# EAGLE library part MOSFET_NCH_DUAL (library useful)
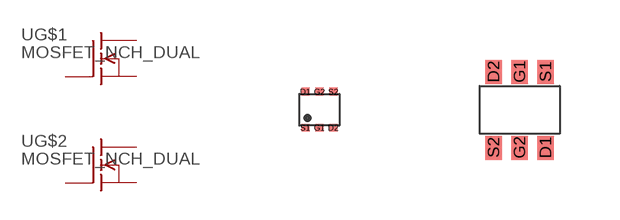
[diagram p6: symbol with the pads of SOT-963; footprints SOT-963, SOT-363]

Designator prefix -; gates G$1=IGFET-EN-GDS G$2=IGFET-EN-GDS

## MOSFET_NCH_DUALKLEIN  [SOT-963]
D1  G$1:D  pas
D2  G$2:D  pas
G1  G$1:G  pas
G2  G$2:G  pas
S1  G$1:S  pas
S2  G$2:S  pas

## MOSFET_NCH_DUAL  [SOT-363]
Pads as for SOT-963

## Footprint SOT-963 (pad centres in mm)
smd 0.2 x 0.2: D1 -0.35,0.45; D2 0.35,-0.45; G1 0,-0.45; G2 0,0.45; S1 -0.35,-0.45; S2 0.35,0.45

## Footprint SOT-363 (pad centres in mm)
smd 0.42 x 0.6: D1 0.65,-0.95; D2 -0.65,0.95; G1 0,0.95; G2 0,-0.95; S1 0.65,0.95; S2 -0.65,-0.95